# EAGLE library part AVR_ISP (library gost_con_other)
ISP
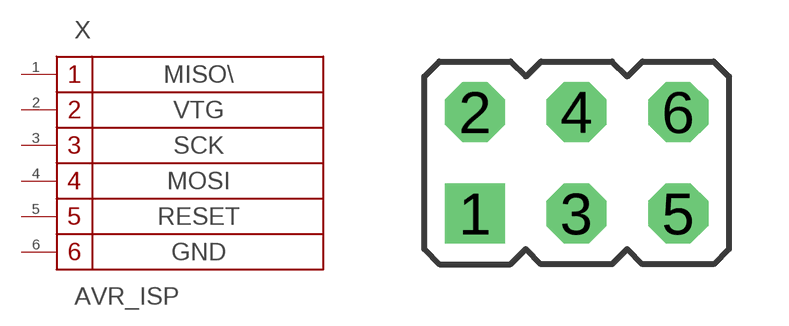
[diagram p0: symbol with the pads of PLD-6; footprint PLD-6]

Designator prefix X

## AVR_ISP  [PLD-6]
1  1
2  2
3  3
4  4
5  5
6  6

## Footprint PLD-6 (pad centres in mm)
Разъем PLD-6
drill 0.9 pad 1.5 square: 1 -2.54,-1.27
drill 0.9 pad 1.5 octagon: 2 -2.54,1.27; 3 0,-1.27; 4 0,1.27; 5 2.54,-1.27; 6 2.54,1.27